# Altium footprint library 直插铝电解电容.PcbLib: 42 footprints (part 2 of 3)
Each footprint in its own frame and in the unit in brackets; x right, y up, seen from the top. Pads: shape width x height; smd on the part's side, far side on the other; paste and mask are expansions set on the pad; w line width, h text height; cw(c..) or ccw(c..) is an arc to the next point about the centre after c.
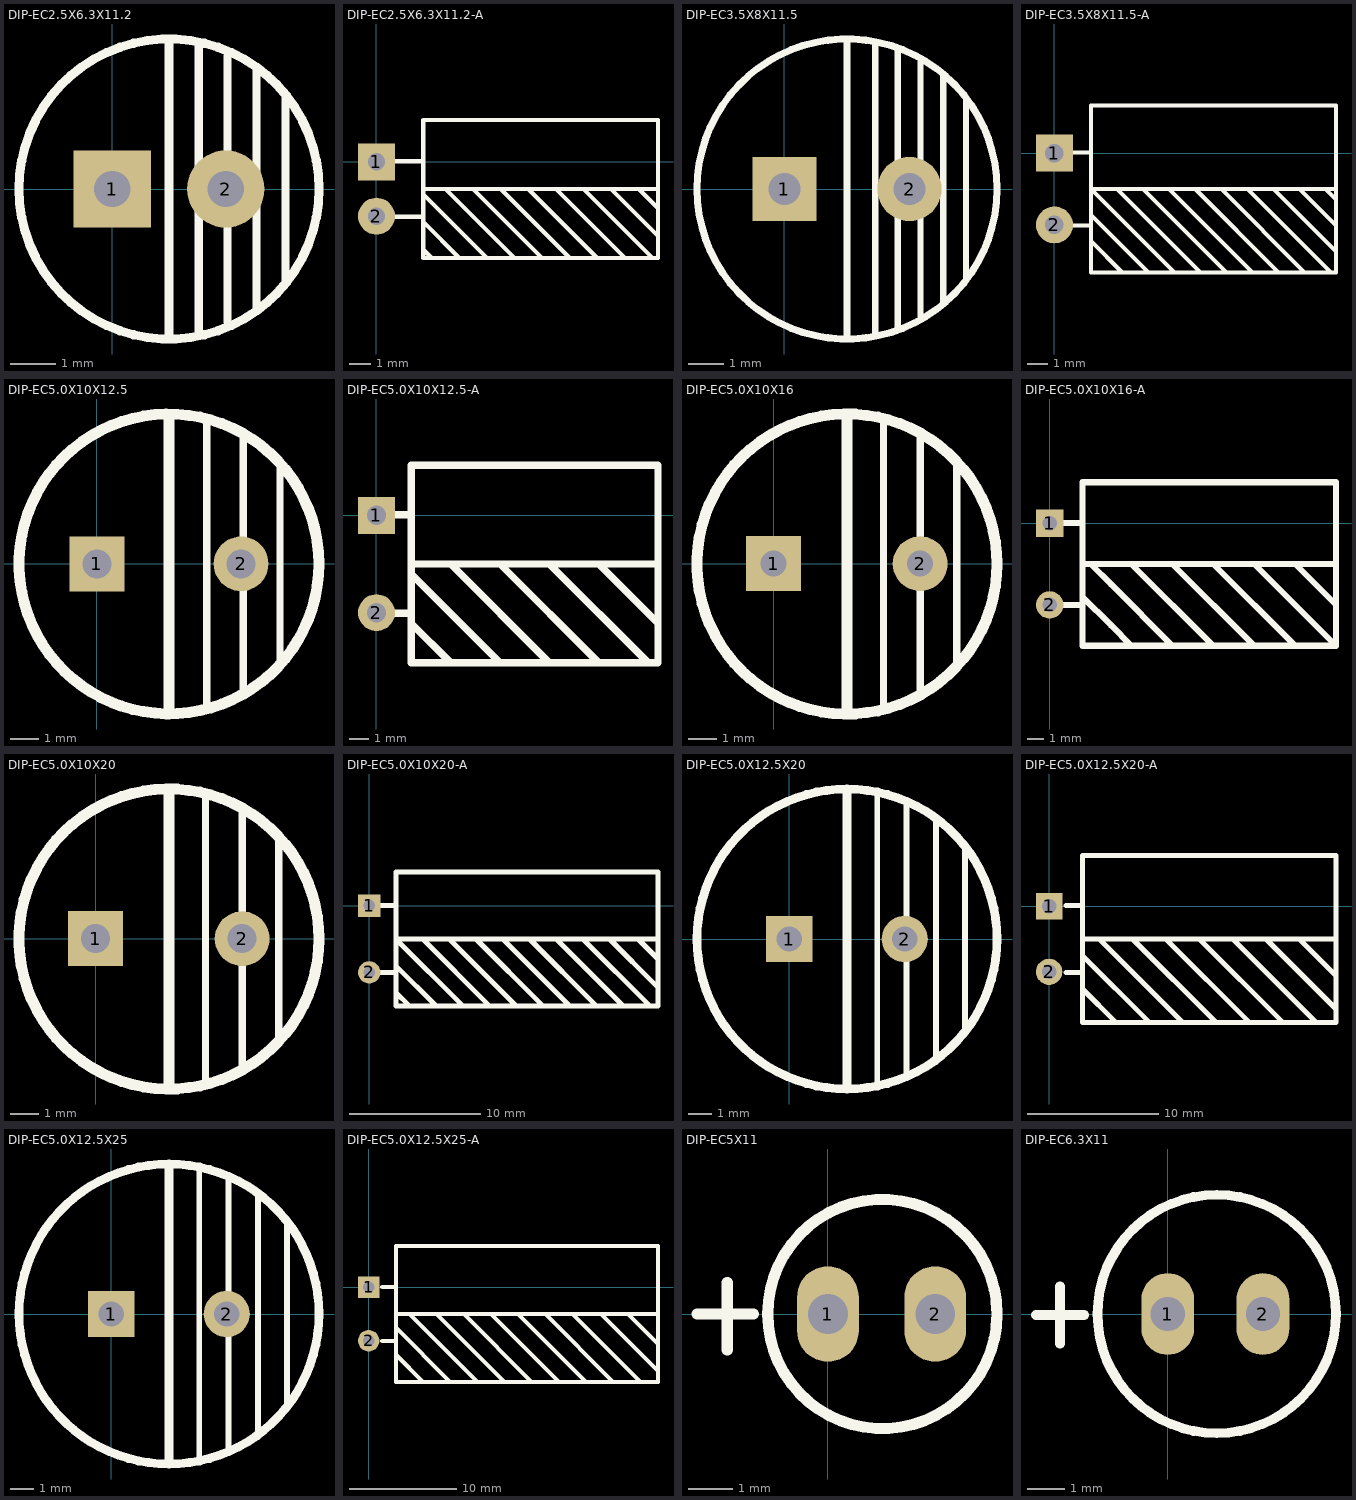
[diagram p1: the footprints below, top view; thin cyan lines are the x and y axes]

## DIP-EC2.5X6.3X11.2 [mm]
pads (2):
  rect 1.7x1.7 hole 0.8: 1(0,0)
  round 1.7 hole 0.8: 2(2.5,0)
Top Overlay:
  circle w0.2: c1.25,0 r3.3
  lines w0.178: 1.905,-3.175 1.905,3.175 ; 2.54,-2.921 2.54,2.921 ; 3.175,-2.667 3.175,2.667 ; 3.81,-2.032 3.81,2.032
  lines w0.2: 1.25,-3.226 1.25,3.277
3D body "CAP 2.5X6.3X11.2.STEP": height 11.23, standoff -3.38, extent -1.905,-3.15 4.405,3.15

## DIP-EC2.5X6.3X11.2-A [mm]
pads (2):
  rect 1.7x1.7 hole 0.8: 1(0,0)
  round 1.7 hole 0.8: 2(0,-2.5)
Top Overlay:
  lines w0.2: 0.635,-2.52 2.159,-2.52 ; 0.635,0.02 2.032,0.02 ; 2.159,-4.044 2.54,-4.425 ; 2.159,-2.774 3.81,-4.425 ; 2.159,-1.504 5.08,-4.425 4.953,-4.425 ; 2.159,-1.25 12.954,-1.25 ; 3.175,-1.25 6.35,-4.425 ; 4.445,-1.25 7.62,-4.425 ; 5.715,-1.25 8.89,-4.425 ; 6.985,-1.25 10.16,-4.425 ; 8.255,-1.25 11.43,-4.425 ; 9.525,-1.25 12.7,-4.425 ; 10.795,-1.25 12.954,-3.409 ; 12.065,-1.25 12.954,-2.139 ; 2.159,-4.425 2.159,1.925 12.954,1.925 12.954,-4.425 2.159,-4.425
3D body "CAP 2.5X6.3X11.2-H.STEP": height 6.32, standoff -3.48, extent -0.254,-4.425 13.156,1.885

## DIP-EC3.5X8X11.5 [mm]
pads (2):
  rect 1.8x1.8 hole 0.9: 1(0,0)
  round 1.8 hole 0.9: 2(3.5,0)
Top Overlay:
  circle w0.2: c1.75,0 r4.2
  lines w0.178: 2.54,-4.064 2.54,4.064 ; 3.175,-3.937 3.175,3.937 ; 3.81,-3.556 3.81,3.556 ; 4.445,-3.175 4.445,3.175 ; 5.08,-2.54 5.08,2.54
  lines w0.2: 1.75,-4.191 1.75,4 1.75,4.191
3D body "CAP 3.5X8X11.5.STEP": height 11.53, standoff -3.38, extent -2.255,-3.998 5.744,3.998

## DIP-EC3.5X8X11.5-A [mm]
pads (2):
  rect 1.8x1.8 hole 0.9: 1(0,0)
  round 1.8 hole 0.9: 2(0,-3.5)
Top Overlay:
  lines w0.2: 0.762,-3.528 1.778,-3.528 ; 0.762,0.028 1.778,0.028 ; 1.778,-4.29 3.302,-5.814 ; 1.778,-3.02 4.572,-5.814 ; 3.048,-1.75 7.112,-5.814 ; 4.318,-1.75 8.382,-5.814 ; 5.588,-1.75 9.652,-5.814 ; 5.842,-5.814 1.778,-1.75 13.716,-1.75 ; 6.858,-1.75 10.922,-5.814 ; 8.128,-1.75 12.192,-5.814 ; 9.398,-1.75 13.462,-5.814 ; 10.668,-1.75 13.716,-4.798 ; 11.938,-1.75 13.716,-3.528 ; 13.208,-1.75 13.716,-2.258 ; 1.778,-5.814 1.778,2.314 13.716,2.314 13.716,-5.814 1.778,-5.814
3D body "CAP 3.5X8X11.5-H.STEP": height 8.03, standoff -2.62, extent -0.381,-5.772 13.329,2.227

## DIP-EC5.0X10X12.5 [mm]
pads (2):
  rect 1.9x1.9 hole 1: 1(0,0)
  round 1.9 hole 1: 2(5,0)
Top Overlay:
  circle w0.381: c2.5,0 r5.2
  lines w0.254: 3.81,-5.08 3.81,4.826 ; 5.08,-4.572 5.08,4.572 ; 6.35,-3.556 6.35,3.302
  lines w0.381: 2.5,-5.207 2.5,5.08
3D body "CAP 5.0X10X12.5.STEP": height 12.55, standoff -3.36, extent -2.403,-4.999 7.585,4.998

## DIP-EC5.0X10X12.5-A [mm]
pads (2):
  rect 1.9x1.9 hole 1: 1(0,0)
  round 1.9 hole 1: 2(0,-5)
Top Overlay:
  lines w0.381: 0.762,-5.04 1.778,-5.04 ; 0.762,0.04 1.778,0.04 ; 1.778,-5.548 3.81,-7.58 ; 1.778,-3.008 6.35,-7.58 ; 1.778,-2.5 14.41,-2.5 ; 3.81,-2.5 8.89,-7.58 ; 6.35,-2.5 11.43,-7.58 ; 8.89,-2.5 13.97,-7.58 ; 11.43,-2.5 14.478,-5.548 ; 1.778,-7.58 1.778,2.58 14.478,2.58 14.478,-7.58 1.778,-7.58
3D body "CAP 5.0X10X12.5-H.STEP": height 10.03, standoff -3.47, extent -0.381,-7.535 14.329,2.453

## DIP-EC5.0X10X16 [mm]
pads (2):
  rect 1.9x1.9 hole 0.9: 1(0,0)
  round 1.9 hole 0.9: 2(5.08,0)
Top Overlay:
  circle w0.381: c2.546,-0.013 r5.2
  lines w0.254: 3.81,-5.08 3.81,5.08 ; 5.08,-4.572 5.08,4.572 ; 6.35,-3.556 6.35,3.556
  lines w0.381: 2.546,-5.197 2.546,5.072 ; 2.546,-5.082 2.546,-5.075 ; 2.546,-4.07 2.546,-4.064 ; 2.546,-3.054 2.546,-3.05 2.546,-3.043 ; 2.546,-2.032 2.546,-2.038 ; 2.546,1.01 2.546,1.016 ; 2.546,2.026 2.546,2.032 ; 2.546,4.058 2.546,4.064 ; 2.546,5.074 2.546,5.187 ; 2.546,-2.038 2.546,-2.038
3D body "CAP 5.0X10X16.STEP": height 16.04, standoff -3.37, extent -2.401,-4.998 7.587,4.999

## DIP-EC5.0X10X16-A [mm]
pads (2):
  rect 1.7x1.7 hole 0.9: 1(0,0)
  round 1.7 hole 0.9: 2(0,-5.08)
Top Overlay:
  lines w0.381: 0.762,-5.08 1.778,-5.08 2.032,-5.08 ; 0.762,0 1.778,0 2.032,0 ; 2.032,-4.572 3.81,-6.35 5.08,-7.62 ; 2.032,-2.54 2.54,-2.54 ; 3.81,-2.54 17.78,-2.54 ; 4.064,-2.54 2.54,-2.54 ; 5.08,-2.54 10.16,-7.62 ; 7.62,-7.62 3.81,-3.81 2.54,-2.54 ; 7.62,-2.54 12.7,-7.62 ; 10.16,-2.54 15.24,-7.62 ; 12.7,-2.54 17.78,-7.62 ; 15.24,-2.54 17.78,-5.08 ; 17.78,-7.62 17.78,2.54 2.032,2.54 2.032,-7.62 17.78,-7.62
3D body "CAP 5.0X10X16-H.STEP": height 10.03, standoff -3.47, extent -0.254,-7.535 17.956,2.453

## DIP-EC5.0X10X20 [mm]
pads (2):
  rect 1.9x1.9 hole 1: 1(0,0)
  round 1.9 hole 1: 2(5.08,0)
Top Overlay:
  circle w0.381: c2.546,-0.013 r5.2
  lines w0.254: 3.81,-5.08 3.81,4.826 ; 5.08,-4.572 5.08,4.572 ; 6.35,-3.556 6.35,3.556
  lines w0.381: 2.546,-5.197 2.546,5.072 ; 2.546,-5.082 2.546,-5.075 ; 2.546,-4.07 2.546,-4.064 ; 2.546,-3.054 2.546,-3.05 2.546,-3.043 ; 2.546,-2.032 2.546,-2.038 ; 2.546,2.026 2.546,2.032 ; 2.546,4.058 2.546,4.064 ; 2.546,5.074 2.546,5.187 ; 2.546,-2.038 2.546,-2.038
3D body "CAP 5.0X10X20.STEP": height 20.03, standoff -3.38, extent -2.447,-4.924 7.541,5.073

## DIP-EC5.0X10X20-A [mm]
pads (2):
  rect 1.7x1.7 hole 0.9: 1(0,0)
  round 1.7 hole 0.9: 2(0,-5.08)
Top Overlay:
  lines w0.381: 0.762,-5.08 1.778,-5.08 2.032,-5.08 ; 0.762,0 1.778,0 2.032,0 ; 2.032,-6.604 3.048,-7.62 ; 2.032,-4.572 5.08,-7.62 ; 3.81,-2.54 21.971,-2.54 ; 6.096,-2.54 11.176,-7.62 ; 7.112,-7.62 2.032,-2.54 ; 8.128,-2.54 13.208,-7.62 ; 9.144,-7.62 4.064,-2.54 2.54,-2.54 2.032,-2.54 ; 9.652,-2.54 10.16,-2.54 15.24,-7.62 ; 12.192,-2.54 17.272,-7.62 ; 14.224,-2.54 19.304,-7.62 ; 16.256,-2.54 21.336,-7.62 ; 18.288,-2.54 21.844,-6.096 ; 20.32,-2.54 20.447,-2.54 21.971,-4.064 ; 2.032,-2.54 2.032,-2.54 ; 2.032,-7.62 21.971,-7.62 21.971,2.54 2.032,2.54 2.032,-7.62
3D body "CAP 5.0X10X20-H.STEP": height 10.03, standoff -3.47, extent -0.254,-7.535 21.956,2.453

## DIP-EC5.0X12.5X20 [mm]
pads (2):
  rect 2x2 hole 1.1: 1(0,0)
  round 2 hole 1.1: 2(5,0)
Top Overlay:
  circle w0.381: c2.5,0 r6.5
  lines w0.254: 3.81,-6.35 3.81,6.35 ; 5.08,-5.842 5.08,5.842 ; 6.35,-5.334 6.35,5.08 ; 7.62,-4.064 7.62,4.064
  lines w0.381: 2.5,-5.842 2.5,-6.35 2.5,6.35 ; 2.5,-5.08 2.5,-3.81 ; 2.5,-2.54 2.5,-1.778 ; 2.5,1.016 2.5,2.286 ; 2.5,3.048 2.5,4.064
3D body "CAP 5.0X12.5X20.STEP": height 20.03, standoff -3.38, extent -3.798,-6.25 8.692,6.25

## DIP-EC5.0X12.5X20-A [mm]
pads (2):
  rect 2x2 hole 1.1: 1(0,0)
  round 2 hole 1.1: 2(0,-5)
Top Overlay:
  lines w0.381: 1.27,-5.04 2.54,-5.04 ; 1.27,0.04 2.54,0.04 ; 2.54,-6.31 5.08,-8.85 ; 2.54,-3.77 7.62,-8.85 ; 2.54,-2.5 21.844,-2.5 ; 3.81,-2.5 10.16,-8.85 ; 6.35,-2.5 12.7,-8.85 ; 8.89,-2.5 15.24,-8.85 ; 11.43,-2.5 17.78,-8.85 ; 13.97,-2.5 20.32,-8.85 ; 16.51,-2.5 21.844,-7.834 ; 19.05,-2.5 21.844,-5.294 ; 2.54,-8.85 2.54,3.85 21.844,3.85 21.844,-8.85 2.54,-8.85
3D body "CAP 5.0X12.5X20-H.STEP": height 12.53, standoff -3.47, extent -0.381,-8.66 21.829,3.83

## DIP-EC5.0X12.5X25 [mm]
pads (2):
  rect 2x2 hole 1.1: 1(0,0)
  round 2 hole 1.1: 2(5,0)
Top Overlay:
  circle w0.381: c2.5,0 r6.5
  lines w0.254: 3.81,-6.35 3.81,6.35 ; 5.08,-5.842 5.08,5.842 ; 6.35,-5.334 6.35,5.08 ; 7.62,-4.064 7.62,4.064
  lines w0.381: 2.5,-5.842 2.5,-6.35 2.5,6.35 ; 2.5,-5.08 2.5,-3.81 ; 2.5,-2.54 2.5,-1.778 ; 2.5,1.016 2.5,2.286 ; 2.5,3.048 2.5,4.064
3D body "CAP 5.0X12.5X25.STEP": height 25.04, standoff -3.37, extent -3.796,-6.241 8.688,6.241

## DIP-EC5.0X12.5X25-A [mm]
pads (2):
  rect 2x2 hole 1.1: 1(0,0)
  round 2 hole 1.1: 2(0,-5)
Top Overlay:
  lines w0.381: 1.27,-5.04 2.54,-5.04 ; 1.27,0.04 2.54,0.04 ; 2.54,-6.31 5.08,-8.85 ; 2.54,-3.77 7.62,-8.85 ; 2.54,-2.5 27.051,-2.5 ; 3.81,-2.5 10.16,-8.85 ; 6.35,-2.5 12.7,-8.85 ; 8.89,-2.5 15.24,-8.85 ; 11.43,-2.5 17.78,-8.85 ; 13.97,-2.5 20.32,-8.85 ; 16.51,-2.5 22.86,-8.85 ; 19.05,-2.5 25.4,-8.85 ; 21.717,-2.5 27.051,-7.834 ; 24.257,-2.5 27.051,-5.294 ; 2.54,-8.85 2.54,3.85 27.051,3.85 27.051,-8.85 2.54,-8.85
3D body "CAP 5.0X12.5X25-H.STEP": height 12.52, standoff -3.47, extent -0.381,-8.783 26.829,3.701

## DIP-EC5X11 [mil]
pads (2):
  oval 55x85 hole 35.43: 1(0,0) 2(95.5,0)
Top Overlay:
  circle w10: c48.5,0 r102.02
  lines w10: -116.5,0 -66.5,0 ; -89.5,-32 -89.5,28
3D body "CAP_5×11.STEP": height 491.5, standoff -158.11, extent -59.76,-110.93 156.44,104.94

## DIP-EC6.3X11 [mil]
pads (2):
  oval 55x85 hole 35.43: 1(0,0) 2(99,0)
Top Overlay:
  circle w10: c51,0 r124.02
  lines w10: -137,-1 -87,-1 ; -112,-31 -112,29
3D body "Cap_D63H110.STEP": height 492.13, standoff -118.11, extent -81.86,-134.71 185.45,132.72